# Altium footprint library C14MC12B.PcbLib: 1 footprints
Each footprint in its own frame and in the unit in brackets; x right, y up, seen from the top. Pads: shape width x height; smd on the part's side, far side on the other; paste and mask are expansions set on the pad; w line width, h text height; cw(c..) or ccw(c..) is an arc to the next point about the centre after c.
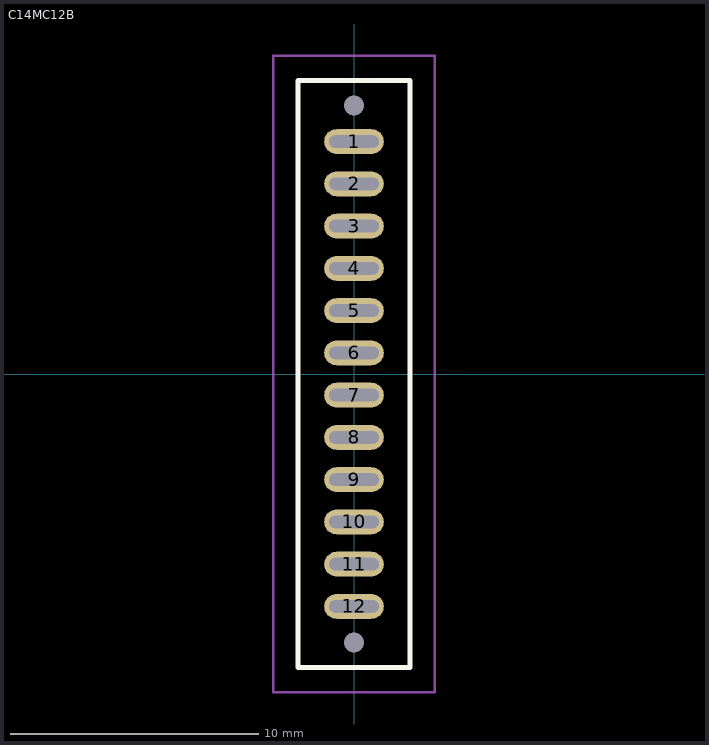
[diagram p0: the footprint, top view; thin cyan lines are the x and y axes]

## C14MC12B [mm] "12 Pin Battery male connector"
pads (14):
  round 0 hole 0.8 unplated: 0(0,-10.8) 0(0,10.8)
  oval 2.4x1 hole 0.5 slot 2 at 0 deg: 1(0,9.35) 2(0,7.65) 3(0,5.95) 4(0,4.25) 5(0,2.55) 6(0,0.85) 7(0,-0.85) 8(0,-2.55) 9(0,-4.25) 10(0,-5.95) 11(0,-7.65) 12(0,-9.35)
Top Overlay:
  lines w0.2: -2.25,-11.8 2.25,-11.8 2.25,11.8 -2.25,11.8 -2.25,-11.8
Top Courtyard:
  lines w0.1: -3.25,-12.8 -3.25,12.8 3.25,12.8 3.25,-12.8 -3.25,-12.8
3D body "DS-C14MC12B-R02V.stp": height 6.25, standoff -2.1, extent -2.25,-11.8 2.25,11.8